# Altium schematic symbol library NNLightSwitcher_1.SCHLIB: 83 symbols (part 1 of 2)
Pins are listed as number, name and electrical type; pins without a type are passive.

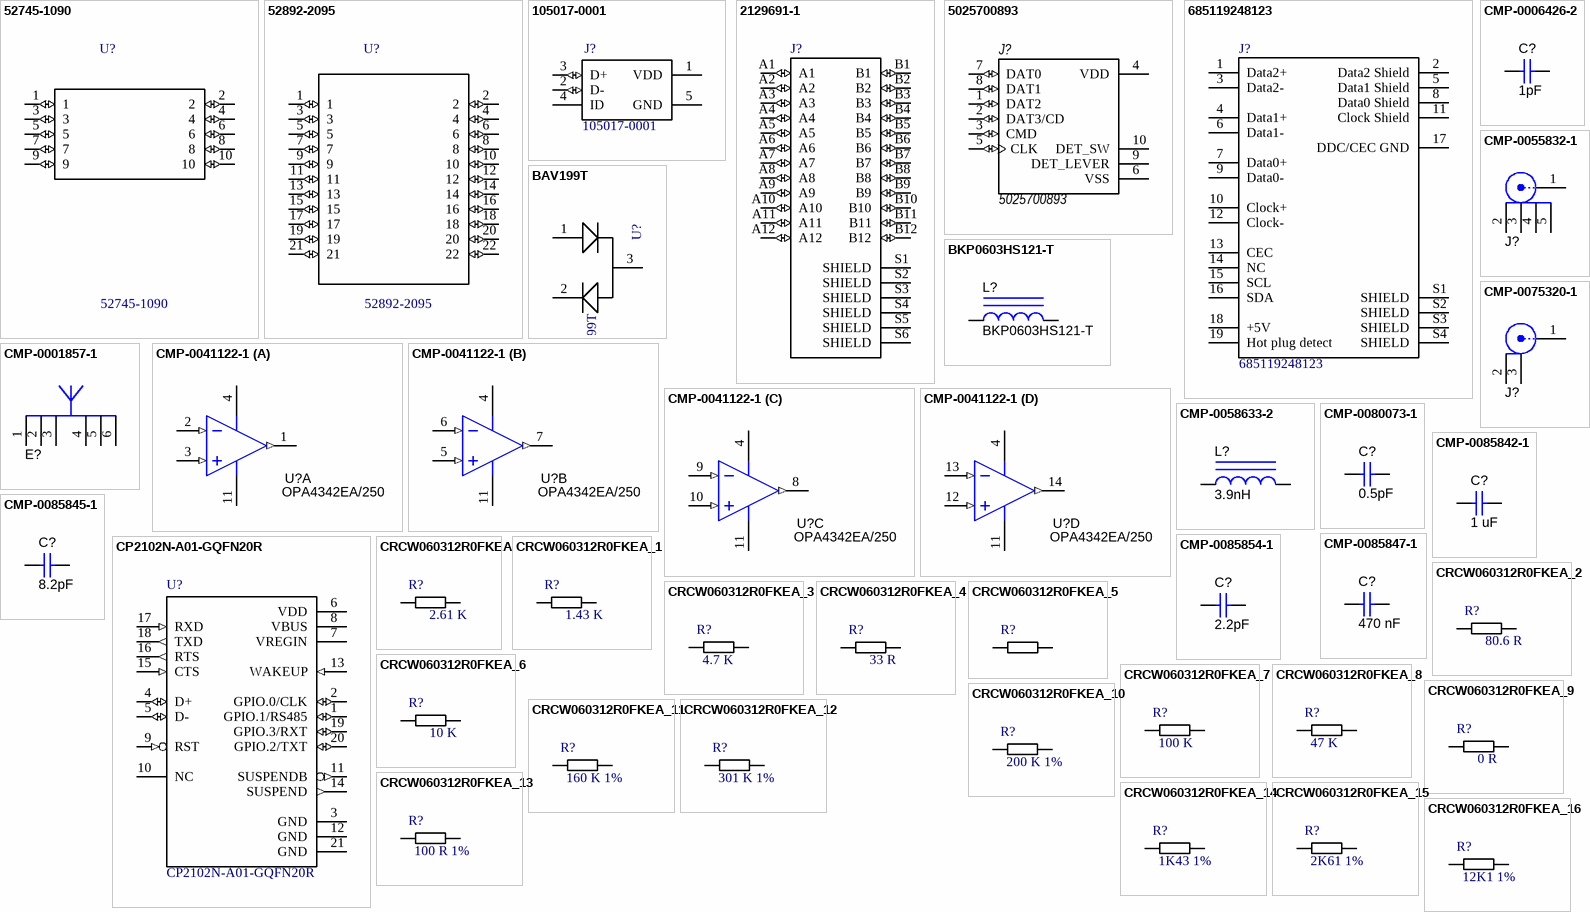
[diagram p0: symbols 52745-1090 to CRCW060312R0FKEA_16]

## 52745-1090
designator U?
.50mm FFC/FPC Connectors 10CKT RA SMT ZIF CON BOTTOM CONTACT; MP: 52892-2095; MF: Molex; Package: None; Price: None; SnapEDA_Link: https://www.snapeda.com/parts/52892-2095/Molex/view-part/?ref=snap; Availability: Unavailable; Value: *
footprint *52745-1090
pins: 1 (io), 2 (io), 3 (io), 4 (io), 5 (io), 6 (io), 7 (io), 8 (io), 9 (io), 10 (io)

## 52892-2095
designator U?
.50mm FFC/FPC Connectors 20CKT RA SMT ZIF CON BOTTOM CONTACT; MF: Molex; MP: 52892-2095; Package: None; Price: None; SnapEDA_Link: https://www.snapeda.com/parts/52892-2095/Molex/view-part/?ref=snap; Availability: Unavailable; Value: *
footprint *MOLEX_52892-2095
pins: 1 (io), 2 (io), 3 (io), 4 (io), 5 (io), 6 (io), 7 (io), 8 (io), 9 (io), 10 (io), 11 (io), 12 (io), 13 (io), 14 (io), 15 (io), 16 (io), 17 (io), 18 (io), 19 (io), 20 (io), 21 (io), 22 (io)

## 105017-0001
designator J?
Conn USB Type B M 5 POS 0.65mm Solder RA Thru-Hole 5 Terminal 1 Port Embossed T/R; MF: Molex; Package: None; MP: 105017-0001; Availability: Good; Price: 0.50 USD; Value: *
footprint MOLEX_105017-0001
pins: 1 VDD (power), 2 D- (io), 3 D+ (io), 4 ID, 5 GND (power)

## 2129691-1
designator J?  (value not drawn)
Conn USB 3.1 Type C RCP 24 POS Solder RA SMD/Thru-Hole 24 Terminal 1 Port Automotive T/R; Product_Type: Connector; Centerline_Pitch: .5 mm[.019 in]; Number_of_Positions: 24; MF: TE Connectivity; TE_purchase_URL: https://www.te.com/usa-en/product-2129691-1.html?te_bu=Cor&te_type=disp&te_campaign=seda_glo_cor-seda-global-disp-prtnr-fy19-seda-model-bom-cta_sma-317_1&elqCampaignId=32493; Package: None; MP: 2129691-1; Price: None; Availability: Unavailable; SnapEDA_Link: https://www.snapeda.com/parts/2129691-1/TE%20Connectivity%20AMP%20Connectors/view-part/?ref=snap; Value: *
footprint *TE_2129691-1_2129691-1(Primary)
pins: A1 (io), A2 (io), A3 (io), A4 (io), A5 (io), A6 (io), A7 (io), A8 (io), A9 (io), A10 (io), A11 (io), A12 (io), B1 (io), B2 (io), B3 (io), B4 (io), B5 (io), B6 (io), B7 (io), B8 (io), B9 (io), B10 (io), B11 (io), B12 (io), S1 SHIELD, S2 SHIELD, S3 SHIELD, S4 SHIELD, S5 SHIELD, S6 SHIELD

## 5025700893
designator J?
1.10mm Pitch microSD Memory Card Connector%2C Normal Mount Surface Mount%2C Push-Push Type; Производитель: Molex; Группа: Разъём; Value: 5025700893; Корпус: *
footprint MOLEX_5025700893
pins: 1 DAT2 (io), 2 DAT3/CD (io), 3 CMD (io), 4 VDD (power), 5 CLK (io), 6 VSS (power), 7 DAT0 (io), 8 DAT1 (io), 9 DET_LEVER, 10 DET_SW

## 685119248123
designator J?
Micro Hdmi Conn, Rcpt, 19pos, r/a, Smt; MF: Wurth Electronics; MP: 685119248123; Availability: Unavailable; Package: None; Price: None; SnapEDA_Link: https://www.snapeda.com/parts/685119248123/Wurth%20Electronics%20Inc./view-part/?ref=snap; Value: *
footprint *WURTH_685119248123_685119248123(Primary)
pins: 1 Data2+, 2 Data2 Shield, 3 Data2-, 4 Data1+, 5 Data1 Shield, 6 Data1-, 7 Data0+, 8 Data0 Shield, 9 Data0-, 10 Clock+, 11 Clock Shield, 12 Clock-, 13 CEC, 14 NC, 15 SCL, 16 SDA, 17 DDC/CEC GND, 18 +5V, 19 Hot plug detect, S1 SHIELD, S2 SHIELD, S3 SHIELD, S4 SHIELD

## BAV199T
designator U?
DIODE, SS, DUAL, 85V, 0.125A, SOT523; Diode Type: Standard Recovery; Forward Current If_AV_: 215mA; Repetitive Revers...; MF: Micro Commercial; Package: SOT-23 Micro Commercial; MP: BAV199T; Availability: Unavailable; Price: None; SnapEDA_Link: https://www.snapeda.com/parts/BAV199T/Micro%20Commercial/view-part/?ref=snap; Value: *
footprint *SOT95P240X110-3N
pins: 1 ANODE, 2 CATHODE, 3 ANODE/CATHODE

## BKP0603HS121-T
designator L?
Inductor, Multilayer, Ferrite bad; PartNumber: LQG15HS3N9S02D; Manufacturer: MuRata; Value: 3.9nH; Imax_A: 750mA; Irms: 0.75A @ 25C rise; DCR_ohm: 0.14; Value1: 0.14 ohm; Value2: 0.75A; Material: Air Core; Green_Lifecycle: Active; SizeAreaWB_mm2: 3; Green_REACh: Passed; SizeZ_mm: 0.55; SizeX_mm: 1; SizeY_mm: 0.5; AEC Qualified: N; AEC Category: Q200; CompType: Inductor; PackageReference: 0402 polarized; Ind_H: 3.9nH; Technology: Multilayer; MountType: SMT; ComponentLink1Description: Datasheet link; ComponentLink1URL: https://search.murata.co.jp/Ceramy/image/img/P02/JELF243B-0010.pdf; RoHS: Y; Supplier 1: Digi-Key; Supplier Part Number 1: 490-2617-1-ND; Supplier 2: Mouser; Supplier Part Number 2: 81-LQG15HS3N9S02D; Green_EU RoHS-2: Incomplete; Green_EU RoHS: Passed; SizeArea_mm2: 0.5; AEC Grade: N/A; ValueDisplayed: BKP0603HS121-T
footprint IND_LQG15H (MuRata)
footprint 0402 (0402 from SM-752 data)
footprint 0402M (0402 from SM-752 data)
footprint 0402L (0402 from SM-752 data)
footprint 0402S (Based on C0402S footprint from PADS legacy)
footprint *BEADC0603X33N
pins: 1, 2

## CMP-0001857-1
designator E?  (value not drawn)
WLAN ANTENNA 802.11, SMD; PartNumber: M830520; Manufacturer: Ethertronics; Alternate Manufacturer: ----; SizeAreaWB_mm2: 50; SizeArea_mm2: 24; SizeX_mm: 3; SizeY_mm: 8; SizeZ_mm: 1.33; CompType: Antenna; MountType: SMT; ComponentLink1Description: Datasheet URL; ComponentLink1URL: http://www.ethertronics.com/files/6014/0708/4228/Savvi_WLAN__8x3_M830510.pdf; RoHS: Y; PackageReference: 8x3mm; Publisher: Texas Instruments; LatestRevisionDate: 09/03/2017; Alternate PartNumber: ----
footprint Ethertronics_M830520 (SMD, 6-Leads, Body 8x3mm)
pins: 1 Feed, 2 GND (power), 3 GND (power), 4 Feed, 5, 6

## CMP-0006426-2
designator C?  ValueDisplayed: 1pF  (hidden comment: CMP-0006426-2)
CAP, CERM, 1 pF, 50 V, +/- 10%, C0G/NP0, 0402; PartNumber: GRM1555C1H1R0BA01D; Manufacturer: MuRata; Alternate PartNumber: ----; Polarized: N; CompType: Capacitor; Value: 1pF; U/M: EA; Value1: Unknown; VDC_V: 50V; TaMin_C: -55°C; TaMax_C: 125°C; Cap_Case: 0402; SizeAreaWB_mm2: 3; SizeZ_mm: 0.6; SizeX_mm: 1; SizeY_mm: 0.5; AEC Category: Q200; PackageReference: 0402; RoHS: Y; Cap_F: 1pF; Tolerance_%: 10%; Value2: 50V; MountType: SMT; Technology: Ceramic; TempCo: C0G/NP0; Published: 2008-06-19; Publisher: Texas Instruments; LatestRevisionDate: 2017-03-09; ComponentLink1Description: Datasheet link; ComponentLink1URL: http://psearch.murata.com/capacitor/product/GRM1555C1H1R0BA01%23.pdf; Alternate Manufacturer: ----; Supplier 1: Digi-Key; Supplier Part Number 1: 490-6206-1-ND; Supplier 2: Mouser; Supplier Part Number 2: 81-GRM1555C1H1R0BA1D; SizeArea_mm2: 0.5; AEC Qualified: ?
footprint 0402 (0402 from SM-752 data)
footprint 0402S (Based on C0402S footprint from PADS legacy)
footprint 0402L (0402 from SM-752 data)
footprint 0402M (0402 from SM-752 data)
pins: 1, 2

## CMP-0041122-1
designator U?  PartNumber: OPA4342EA/250  (hidden comment: CMP-0041122-1)
Low Cost, Low Power, Rail-to-Rail Operational Amplifier MicroAmplifier(TM) Series, 2.7 to 5.5 V, -55 to 125 degC, 14-pin SOP (PW14), Green (RoHS & no Sb/Br); Manufacturer: Texas Instruments; CMRR(Min)(dB): 76; GBW(Typ)(MHz): 1; IIB(Max)(pA): 10; Iq per channel(Max)(mA): 0.25; Number of Channels: 4; Offset Drift(Typ)(uV/C): 3; Packing: SMALL T&R; Rating: Catalog; Sub Family: Low Input Bias Current Amp (<=10pA), Low Power Amp (<=500uA), Low Supply Voltage Amplifier (<=2.7V), Precision Amplifier; Total Supply Voltage(Max)(+5V is 5, +/-5V is 10): 5.5; Total Supply Voltage(Min)(+5V is 5, +/-5V is 10): 2.7; Vio (25C)(Max)(mV): 6; DatasheetVersion: SBOS106A; PackageVersion: 4040064-3/G, 02/2011; PackageReference: PW0014A; PackageDescription: 14-Pin Plastic Small Outline, Body 5 x 4.4 mm, Pitch 0.65 mm; Eco-Plan: Green (RoHS & no Sb/Br); Slew Rate(Typ)(V/us): 1; Code_JEDEC: MO-153; ComponentLink1Description: Manufacturer URL; ComponentLink1URL: http://www.ti.com/; ComponentLink2Description: Datasheet; ComponentLink2URL: http://www.ti.com/lit/ds/symlink/opa4342.pdf; ComponentLink3Description: Package Specification; ComponentLink3URL: http://www.ti.com/litv/pdf/mpds360; Mounting Technology: Surface Mount
footprint PW0014A_N (TSOP, 14-Leads, Body 5x4.4mm, Pitch 0.65mm, IPC Medium Density)
footprint PW0014A_M (TSOP, 14-Leads, Body 5x4.4mm, Pitch 0.65mm, IPC Low Density)
footprint PW0014A_L (TSOP, 14-Leads, Body 5x4.4mm, Pitch 0.65mm, IPC High Density)
pins on every part: 4 V+ (power), 11 V- (power)
part A pins: 1 OUT A (out), 2 IN A- (in), 3 IN A+ (in)
part B pins: 5 IN B+ (in), 6 IN B- (in), 7 OUT B (out)
part C pins: 8 OUT C (out), 9 IN C- (in), 10 IN C+ (in)
part D pins: 12 IN D+ (in), 13 IN D- (in), 14 OUT D (out)

## CMP-0055832-1
designator J?  (value not drawn)
Connector, SMA, Vertical, Gold, SMT; PartNumber: SMA-10V21-TGG; Manufacturer: Hus-Tsan Group Co., Ltd.; Alternate Manufacturer: 傲创; Alternate PartNumber: SMA-050710; CT: TRUE; CNHeader: FALSE; PackageReference: SMD, 4-Leads, Body 7.1x7.1mm; CompType: SMA; RoHS: Y; MountType: SMT; ComponentLink1Description: Datasheet URL; ComponentLink1URL: https://sps06.itg.ti.com/sites/KMS/crossdivteams/altium/docs/ComponentDatasheets/SMA-10V21.pdf; Publisher: Texas Instruments; LatestRevisionDate: 26/05/2017
footprint Hustsan_SMA-10V21-TGG (SMD, 4-Leads, Body 7.1x7.1mm)
pins: 1, 2, 3, 4, 5

## CMP-0058633-2
designator L?  ValueDisplayed: 3.9nH  (hidden comment: CMP-0058633-2)
Inductor, Multilayer, Air Core, 3.9 nH, 0.75 A, 0.14 ohm, SMD; PartNumber: LQG15HS3N9S02D; Manufacturer: MuRata; Value: 3.9nH; Imax_A: 750mA; Irms: 0.75A @ 25C rise; DCR_ohm: 0.14; Value2: 0.75A; Green_Lifecycle: Active; SizeAreaWB_mm2: 3; Green_REACh: Passed; SizeZ_mm: 0.55; SizeX_mm: 1; SizeY_mm: 0.5; AEC Qualified: N; AEC Category: Q200; CompType: Inductor; PackageReference: 0402 polarized; Ind_H: 3.9nH; Value1: 0.14 ohm; Technology: Multilayer; MountType: SMT; Material: Air Core; ComponentLink1Description: Datasheet link; ComponentLink1URL: https://search.murata.co.jp/Ceramy/image/img/P02/JELF243B-0010.pdf; RoHS: Y; Supplier 1: Digi-Key; Supplier Part Number 1: 490-2617-1-ND; Supplier 2: Mouser; Supplier Part Number 2: 81-LQG15HS3N9S02D; Green_EU RoHS-2: Incomplete; Green_EU RoHS: Passed; SizeArea_mm2: 0.5; AEC Grade: N/A
footprint IND_LQG15H (MuRata)
footprint 0402 (0402 from SM-752 data)
footprint 0402M (0402 from SM-752 data)
footprint 0402L (0402 from SM-752 data)
footprint 0402S (Based on C0402S footprint from PADS legacy)
pins: 1, 2

## CMP-0075320-1
designator J?, comment U.FL-R-SMT-1(01)  (value not drawn)
Receptacle, Ultra Miniature Coaxial, Male Pin, 50 ohm, SMT; Manufacturer: Hirose Electric Co. Ltd.; Alternate Manufacturer: ----; CNHeader: False; Gender: Female; ContactFinish: Gold; PartNumber: U.FL-R-SMT-1(01); PackageReference: Ultra small CO-AX SMD; CompType: Receptacle; RoHS: Y; MountType: SMT; ComponentLink1Description: Datasheet URL; ComponentLink1URL: https://www.hirose.com/product/en/download_file/key_name/U.FL%2DR%2DSMT%2D1%2801%29/category/Drawing%20(2D)/doc_file_id/37625/?file_category_id=6&item_id=03310472201&is_series=; Publisher: Texas Instruments; LatestRevisionDate: 2017-07-12; Alternate PartNumber: ----; Supplier 1: Digi-Key; Supplier Part Number 1: H122041-ND; Supplier 2: Newark; Supplier Part Number 2: 18K7517; Supplier 3: Mouser; Supplier Part Number 3: 798-U.FL-R-SMT01; Color: Beige; PinCount: 3; Orientation: Vertical; CT: False
footprint CONN_UFL-R-SMT-1 (Hirose recommended land pattern http://www.hirose.co.jp/cataloge_hp/e32119372.pdf 2009.2)
pins: 1, 2, 3

## CMP-0080073-1
designator C?, comment ValueDisplayed: 0.5pF  (hidden comment: GJM1555C1HR50BB01J)
CAP, CERM, 0.5 pF, 50 V,+/- 20%, C0G/NP0, 0402; Manufacturer: MuRata; Polarized: N; CompType: Capacitor; Value: 0.5pF; U/M: EA; VDC_V: 50V; TaMin_C: -55°C; TaMax_C: 125°C; Cap_Case: 0402; Green_Lifecycle: Active; SizeAreaWB_mm2: 3; Green_REACh: Passed; SizeZ_mm: 0.6; SizeX_mm: 1; SizeY_mm: 0.5; AEC Category: Q200; PartNumber: GJM1555C1HR50BB01J; PackageReference: 0402; RoHS: Y; Cap_F: 0.5pF; Tolerance_%: 20%; Value2: 50V; MountType: SMT; Technology: Ceramic; TempCo: C0G/NP0; ComponentLink1Description: Datasheet link; ComponentLink1URL: https://search.murata.co.jp/Ceramy/image/img/A01X/G101/ENG/GJM1555C1HR50BB01-01.pdf; Supplier 1: Digi-Key; Supplier Part Number 1: 490-8105-1-ND; Supplier 2: Mouser; Supplier Part Number 2: 81-GJM1555C1HR50BB1J; Green_EU RoHS-2: Incomplete; Green_EU RoHS: Passed; SizeArea_mm2: 0.5; AEC Qualified: N; AEC Grade: N/A
footprint 0402 (0402 from SM-752 data)
footprint 0402M (0402 from SM-752 data)
footprint 0402L (0402 from SM-752 data)
footprint 0402S (Based on C0402S footprint from PADS legacy)
pins: 1, 2

## CMP-0085842-1
designator C?, comment ValueDisplayed: 1 uF  (hidden comment: 0402B103K500CT)
CAP, CERM, 0.01 µF, 50 V,+/- 10%, X7R, 0402; Manufacturer: Walsin; Alternate PartNumber: C1005X7R1C103K050BA; Polarized: N; CompType: Capacitor; Value: 0.01uF; U/M: EA; Cap_F: 10nF; VDC_V: 50V; TaMin_C: -55°C; TaMax_C: 125°C; Cap_Case: 0402; SizeArea_mm2: 0.5; SizeAreaWB_mm2: 3; SizeX_mm: 1; SizeZ_mm: 0.6; AEC Category: Q200; PartNumber: 0402B103K500CT; PackageReference: 0402; RoHS: Y; Tolerance_%: 10%; Value2: 50V; MountType: SMT; Technology: Ceramic; TempCo: X7R; ComponentLink1Description: Datasheet link; ComponentLink1URL: http://www.passivecomponent.com/indexsea/0402B103K500CT-IN.pdf; SizeY_mm: 0.5; AEC Qualified: N; AEC Grade: N/A
footprint 0402 (0402 from SM-752 data)
footprint 0402M (0402 from SM-752 data)
footprint 0402L (0402 from SM-752 data)
footprint 0402S (Based on C0402S footprint from PADS legacy)
pins: 1, 2

## CMP-0085845-1
designator C?, comment ValueDisplayed: 8.2pF  (hidden comment: 0402N8R2C500CT)
CAP, CERM, 8.2 pF, 50 V,+/- 3%, C0G/NP0, 0402; Manufacturer: Walsin; Alternate PartNumber: GRM1555C1H8R2CA01D; Alternate Manufacturer: MuRata; Polarized: N; CompType: Capacitor; Value: 8.2pF; U/M: EA; VDC_V: 50V; TaMin_C: -55°C; TaMax_C: 125°C; Cap_Case: 0402; SizeArea_mm2: 0.5; SizeAreaWB_mm2: 3; SizeX_mm: 1; SizeZ_mm: 0.6; AEC Category: Q200; PartNumber: 0402N8R2C500CT; PackageReference: 0402; RoHS: Y; Cap_F: 8.2pF; Tolerance_%: 3%; Value2: 50V; MountType: SMT; Technology: Ceramic; TempCo: C0G/NP0; SizeY_mm: 0.5; ComponentLink1Description: Datasheet link; ComponentLink1URL: http://www.passivecomponent.com/indexsea/0402N8R2C500CT-IN.pdf; AEC Qualified: N; AEC Grade: N/A
footprint 0402 (0402 from SM-752 data)
footprint 0402M (0402 from SM-752 data)
footprint 0402L (0402 from SM-752 data)
footprint 0402S (Based on C0402S footprint from PADS legacy)
pins: 1, 2

## CMP-0085847-1
designator C?, comment ValueDisplayed: 470 nF  (hidden comment: CC0201JRNPO8BN101)
CAP, CERM, 100 pF, 25 V,+/- 5%, C0G/NP0, 0201; Manufacturer: Yageo; Alternate PartNumber: C0603C0G1E101J030BA; Polarized: N; CompType: Capacitor; Value: 100pF; U/M: EA; VDC_V: 25V; TaMin_C: -55°C; TaMax_C: 125°C; Cap_Case: 0201; SizeArea_mm2: 0.18; SizeAreaWB_mm2: 2.08; SizeX_mm: 0.6; SizeY_mm: 0.3; SizeZ_mm: 0.26; AEC Category: Q200; PartNumber: CC0201JRNPO8BN101; PackageReference: 0201; RoHS: Y; Cap_F: 100pF; Tolerance_%: 5%; Value2: 25V; MountType: SMT; Technology: Ceramic; TempCo: C0G/NP0; ComponentLink1Description: Datasheet link; ComponentLink1URL: http://www.yageo.com/documents/recent/UPY-GP_NP0_16V-to-50V_16.pdf; AEC Qualified: N; AEC Grade: N/A
footprint 0201 (Data from Kemet datasheet CC101_COM dated 7/28/11)
footprint 0201M (Data from Kemet datasheet CC101_COM dated 7/28/11)
footprint 0201L (Data from Kemet datasheet CC101_COM dated 7/28/11)
footprint 0201_Silk (Data from Kemet datasheet CC101_COM dated 7/28/11)
pins: 1, 2

## CMP-0085854-1
designator C?, comment ValueDisplayed: 2.2pF  (hidden comment: GJM1555C1H2R2BB01D)
CAP, CERM, 2.2 pF, 50 V,+/- 4.5%, C0G/NP0, 0402; Manufacturer: MuRata; Alternate PartNumber: GRM1555C1H2R2BA01D; Polarized: N; CompType: Capacitor; Value: 2.2pF; U/M: EA; VDC_V: 50V; TaMin_C: -55°C; TaMax_C: 125°C; Cap_Case: 0402; SizeArea_mm2: 0.5; SizeAreaWB_mm2: 3; SizeX_mm: 1; SizeZ_mm: 0.6; AEC Category: Q200; PartNumber: GJM1555C1H2R2BB01D; PackageReference: 0402; RoHS: Y; Cap_F: 2.2pF; Tolerance_%: 4.5%; Value2: 50V; MountType: SMT; Technology: Ceramic; TempCo: C0G/NP0; SizeY_mm: 0.5; ComponentLink1Description: Datasheet link; ComponentLink1URL: https://psearch.en.murata.com/capacitor/product/GJM1555C1H2R2BB01%23.pdf; Alternate Manufacturer: MuRata; AEC Qualified: N; AEC Grade: N/A
footprint 0402 (0402 from SM-752 data)
footprint 0402M (0402 from SM-752 data)
footprint 0402L (0402 from SM-752 data)
footprint 0402S (Based on C0402S footprint from PADS legacy)
pins: 1, 2

## CP2102N-A01-GQFN20R
designator U?
Ic Bridge Usb To Uart 20qfn; MF: Silicon Labs; Package: QFN-20 Silicon Labs; Price: None; SnapEDA_Link: https://www.snapeda.com/parts/CP2102N-A01-GQFN20R/Silicon%20Labs/view-part/?ref=snap; MP: CP2102N-A01-GQFN20R; Availability: Unavailable; Value: *
footprint *SILABS_QFN20
pins: 1 GPIO.1/RS485 (io), 2 GPIO.0/CLK (io), 3 GND (power), 4 D+ (io), 5 D- (io), 6 VDD (power), 7 VREGIN (power), 8 VBUS (power), 9 RST (in), 10 NC, 11 SUSPENDB (out), 12 GND (power), 13 WAKEUP (in), 14 SUSPEND (out), 15 CTS (in), 16 RTS (out), 17 RXD (in), 18 TXD (out), 19 GPIO.3/RXT (io), 20 GPIO.2/TXT (io), 21 GND (power)

## CRCW060312R0FKEA
designator R?  value 2.61 K
0603 0.1 W Film Chip Resistor; MP: CRCW060312R0FKEA; MF: Vishay Dale; Package: 0603 Vishay; Price: None; Availability: Unavailable; SnapEDA_Link: https://www.snapeda.com/parts/CRCW060312R0FKEA/Vishay%20Dale/view-part/?ref=snap
footprint *0603
pins: 1, 2

## CRCW060312R0FKEA_1
designator R?  value 1.43 K
0603 0.1 W Film Chip Resistor; MP: CRCW060312R0FKEA; MF: Vishay Dale; Package: 0603 Vishay; Price: None; Availability: Unavailable; SnapEDA_Link: https://www.snapeda.com/parts/CRCW060312R0FKEA/Vishay%20Dale/view-part/?ref=snap
footprint *0603
pins: 1, 2

## CRCW060312R0FKEA_2
designator R?  value 80.6 R
0603 0.1 W Film Chip Resistor; MP: CRCW060312R0FKEA; MF: Vishay Dale; Package: 0603 Vishay; Price: None; Availability: Unavailable; SnapEDA_Link: https://www.snapeda.com/parts/CRCW060312R0FKEA/Vishay%20Dale/view-part/?ref=snap
footprint *0603
pins: 1, 2

## CRCW060312R0FKEA_3
designator R?  value 4.7 K
0603 0.1 W Film Chip Resistor; MP: CRCW060312R0FKEA; MF: Vishay Dale; Package: 0603 Vishay; Price: None; Availability: Unavailable; SnapEDA_Link: https://www.snapeda.com/parts/CRCW060312R0FKEA/Vishay%20Dale/view-part/?ref=snap
footprint *0603
pins: 1, 2

## CRCW060312R0FKEA_4
designator R?  value 33 R
0603 0.1 W Film Chip Resistor; MP: CRCW060312R0FKEA; MF: Vishay Dale; Package: 0603 Vishay; Price: None; Availability: Unavailable; SnapEDA_Link: https://www.snapeda.com/parts/CRCW060312R0FKEA/Vishay%20Dale/view-part/?ref=snap
footprint *0603
pins: 1, 2

## CRCW060312R0FKEA_5
designator R?
0603 0.1 W Film Chip Resistor; MP: CRCW060312R0FKEA; MF: Vishay Dale; Value: 12.1 K; Package: 0603 Vishay; Price: None; Availability: Unavailable; SnapEDA_Link: https://www.snapeda.com/parts/CRCW060312R0FKEA/Vishay%20Dale/view-part/?ref=snap
footprint *0603
pins: 1, 2

## CRCW060312R0FKEA_6
designator R?  value 10 K  (hidden comment: *)
/ CRCW Series 0603 0.1 W 12 Ohm Â±1 % Â±100 ppm/K SMT Thick Film Chip Resistor /; MP: CRCW060312R0FKEA; MF: Vishay Dale; Package: 0603 Vishay; Price: None; Availability: Unavailable; SnapEDA_Link: https://www.snapeda.com/parts/CRCW060312R0FKEA/Vishay%20Dale/view-part/?ref=snap
footprint *0603
pins: 1, 2

## CRCW060312R0FKEA_7
designator R?  value 100 K  (hidden comment: *)
/ CRCW Series 0603 0.1 W 12 Ohm Â±1 % Â±100 ppm/K SMT Thick Film Chip Resistor /; MP: CRCW060312R0FKEA; MF: Vishay Dale; Package: 0603 Vishay; Price: None; Availability: Unavailable; SnapEDA_Link: https://www.snapeda.com/parts/CRCW060312R0FKEA/Vishay%20Dale/view-part/?ref=snap
footprint *0603
pins: 1, 2

## CRCW060312R0FKEA_8
designator R?  value 47 K  (hidden comment: *)
/ CRCW Series 0603 0.1 W 12 Ohm Â±1 % Â±100 ppm/K SMT Thick Film Chip Resistor /; MP: CRCW060312R0FKEA; MF: Vishay Dale; Package: 0603 Vishay; Price: None; Availability: Unavailable; SnapEDA_Link: https://www.snapeda.com/parts/CRCW060312R0FKEA/Vishay%20Dale/view-part/?ref=snap
footprint *0603
pins: 1, 2

## CRCW060312R0FKEA_9
designator R?  value 0 R  (hidden comment: *)
/ CRCW Series 0603 0.1 W 12 Ohm Â±1 % Â±100 ppm/K SMT Thick Film Chip Resistor /; MP: CRCW060312R0FKEA; MF: Vishay Dale; Package: 0603 Vishay; Price: None; Availability: Unavailable; SnapEDA_Link: https://www.snapeda.com/parts/CRCW060312R0FKEA/Vishay%20Dale/view-part/?ref=snap
footprint *0603
pins: 1, 2

## CRCW060312R0FKEA_10
designator R?, comment value 200 K 1%  (hidden comment: Resistor)
/ CRCW Series 0603 0.1 W 12 Ohm Â±1 % Â±100 ppm/K SMT Thick Film Chip Resistor /; MP: CRCW060312R0FKEA; MF: Vishay Dale; Package: 0603 Vishay; Price: None; Availability: Unavailable; SnapEDA_Link: https://www.snapeda.com/parts/CRCW060312R0FKEA/Vishay%20Dale/view-part/?ref=snap
footprint *0603
pins: 1, 2

## CRCW060312R0FKEA_11
designator R?, comment value 160 K 1%  (hidden comment: Resistor)
/ CRCW Series 0603 0.1 W 12 Ohm Â±1 % Â±100 ppm/K SMT Thick Film Chip Resistor /; MP: CRCW060312R0FKEA; MF: Vishay Dale; Package: 0603 Vishay; Price: None; Availability: Unavailable; SnapEDA_Link: https://www.snapeda.com/parts/CRCW060312R0FKEA/Vishay%20Dale/view-part/?ref=snap
footprint *0603
pins: 1, 2

## CRCW060312R0FKEA_12
designator R?, comment value 301 K 1%  (hidden comment: Resistor)
/ CRCW Series 0603 0.1 W 12 Ohm Â±1 % Â±100 ppm/K SMT Thick Film Chip Resistor /; MP: CRCW060312R0FKEA; MF: Vishay Dale; Package: 0603 Vishay; Price: None; Availability: Unavailable; SnapEDA_Link: https://www.snapeda.com/parts/CRCW060312R0FKEA/Vishay%20Dale/view-part/?ref=snap
footprint *0603
pins: 1, 2

## CRCW060312R0FKEA_13
designator R?, comment value 100 R 1%  (hidden comment: Resistor)
/ CRCW Series 0603 0.1 W 12 Ohm Â±1 % Â±100 ppm/K SMT Thick Film Chip Resistor /; MP: CRCW060312R0FKEA; MF: Vishay Dale; Package: 0603 Vishay; Price: None; Availability: Unavailable; SnapEDA_Link: https://www.snapeda.com/parts/CRCW060312R0FKEA/Vishay%20Dale/view-part/?ref=snap
footprint *0603
pins: 1, 2

## CRCW060312R0FKEA_14
designator R?, comment value 1K43 1%  (hidden comment: Resistor)
/ CRCW Series 0603 0.1 W 12 Ohm Â±1 % Â±100 ppm/K SMT Thick Film Chip Resistor /; MP: CRCW060312R0FKEA; MF: Vishay Dale; Package: 0603 Vishay; Price: None; Availability: Unavailable; SnapEDA_Link: https://www.snapeda.com/parts/CRCW060312R0FKEA/Vishay%20Dale/view-part/?ref=snap
footprint *0603
pins: 1, 2

## CRCW060312R0FKEA_15
designator R?, comment value 2K61 1%  (hidden comment: Resistor)
/ CRCW Series 0603 0.1 W 12 Ohm Â±1 % Â±100 ppm/K SMT Thick Film Chip Resistor /; MP: CRCW060312R0FKEA; MF: Vishay Dale; Package: 0603 Vishay; Price: None; Availability: Unavailable; SnapEDA_Link: https://www.snapeda.com/parts/CRCW060312R0FKEA/Vishay%20Dale/view-part/?ref=snap
footprint *0603
pins: 1, 2

## CRCW060312R0FKEA_16
designator R?, comment value 12K1 1%  (hidden comment: Resistor)
/ CRCW Series 0603 0.1 W 12 Ohm Â±1 % Â±100 ppm/K SMT Thick Film Chip Resistor /; MP: CRCW060312R0FKEA; MF: Vishay Dale; Package: 0603 Vishay; Price: None; Availability: Unavailable; SnapEDA_Link: https://www.snapeda.com/parts/CRCW060312R0FKEA/Vishay%20Dale/view-part/?ref=snap
footprint *0603
pins: 1, 2

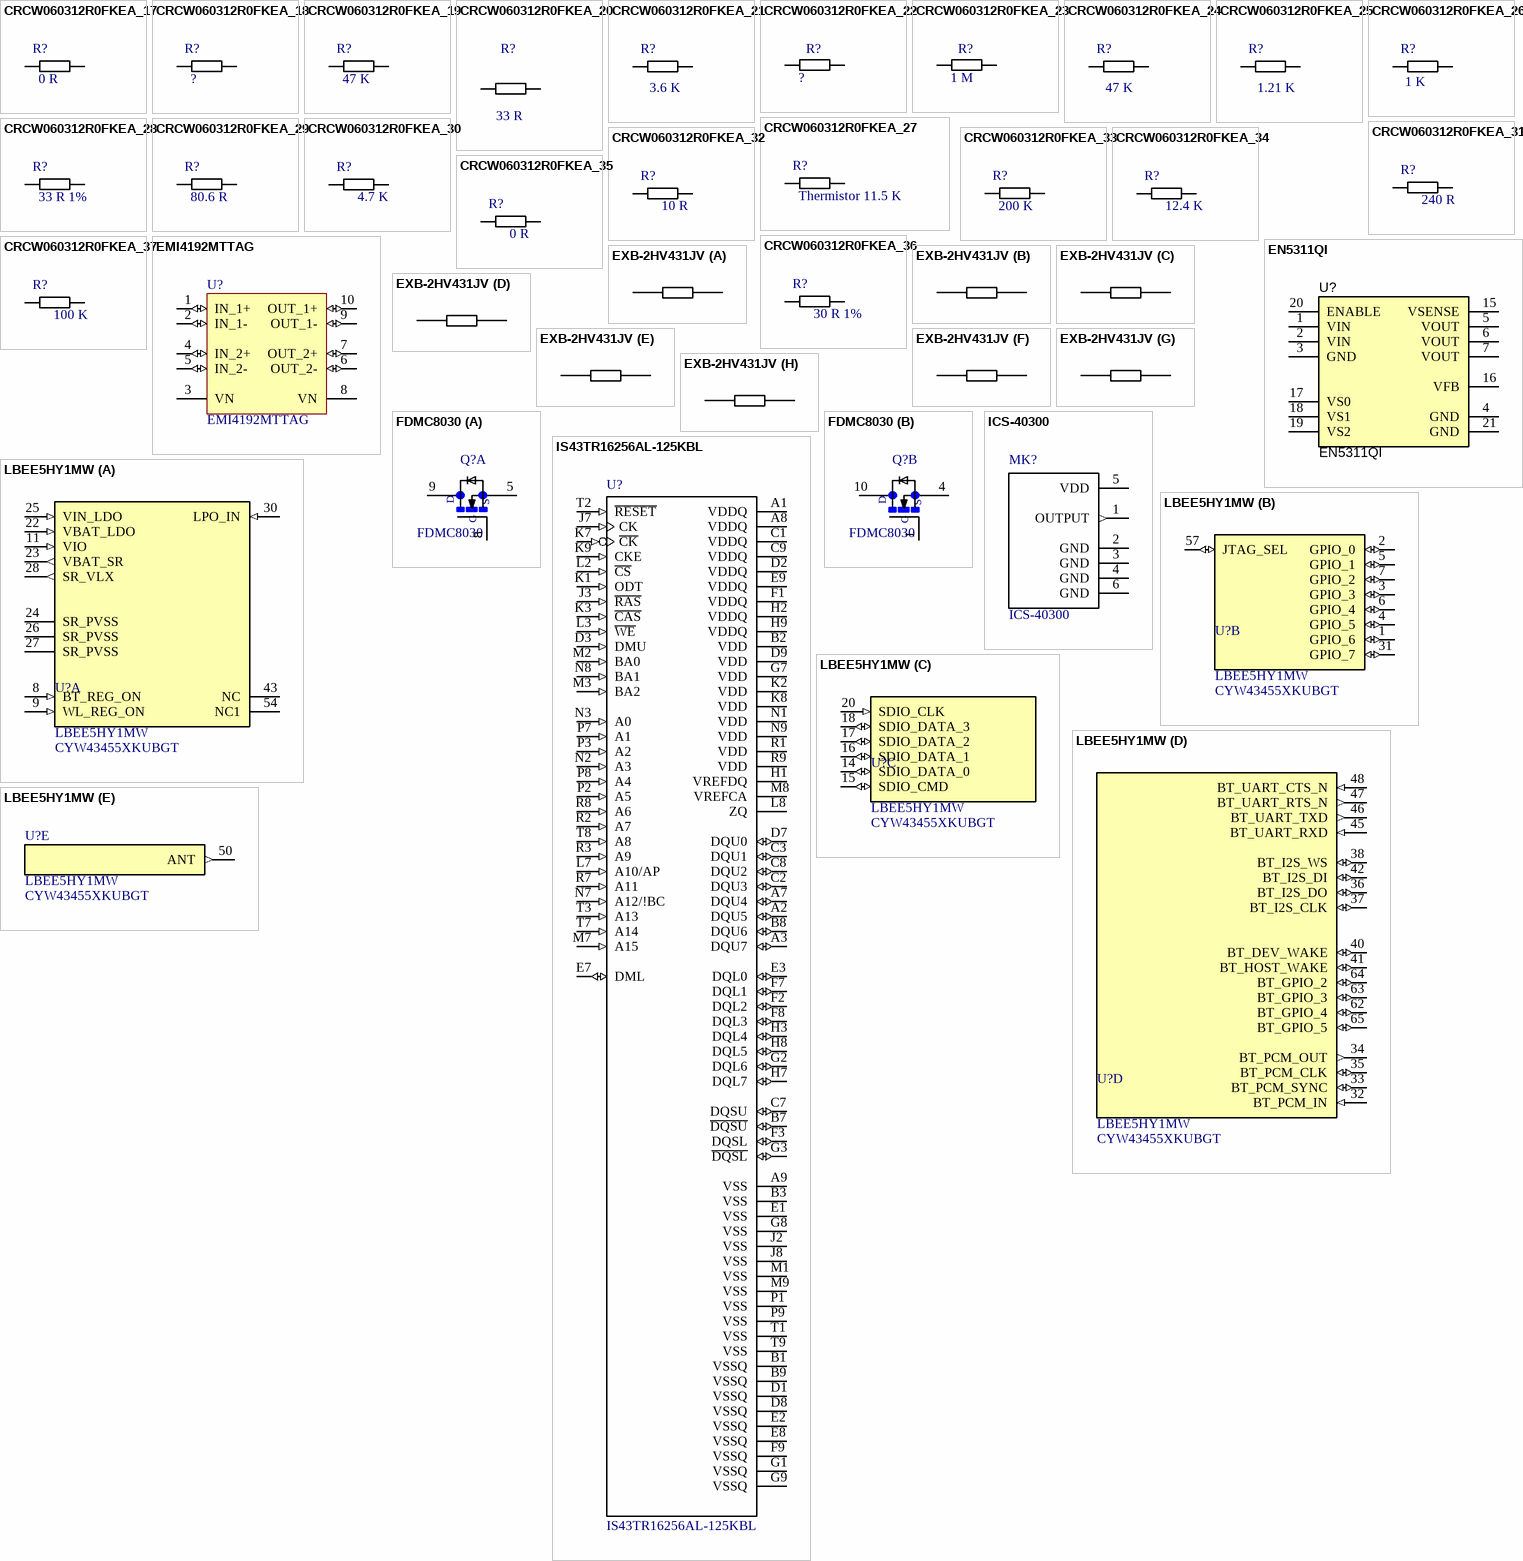
[diagram p1: symbols CRCW060312R0FKEA_17 to LBEE5HY1MW]

## CRCW060312R0FKEA_17
designator R?, comment value 0 R  (hidden comment: Resistor)
/ CRCW Series 0603 0.1 W 12 Ohm Â±1 % Â±100 ppm/K SMT Thick Film Chip Resistor /; MP: CRCW060312R0FKEA; MF: Vishay Dale; Package: 0603 Vishay; Price: None; Availability: Unavailable; SnapEDA_Link: https://www.snapeda.com/parts/CRCW060312R0FKEA/Vishay%20Dale/view-part/?ref=snap
footprint *0603
pins: 1, 2

## CRCW060312R0FKEA_18
designator R?
0603 0.1 W Film Chip Resistor; MP: CRCW060312R0FKEA; MF: Vishay Dale; Package: 0603 Vishay; Price: None; Availability: Unavailable; SnapEDA_Link: https://www.snapeda.com/parts/CRCW060312R0FKEA/Vishay%20Dale/view-part/?ref=snap; Value: ?
footprint *0603
pins: 1, 2

## CRCW060312R0FKEA_19
designator R?  value 47 K
0603 0.1 W Film Chip Resistor; MP: CRCW060312R0FKEA; MF: Vishay Dale; Package: 0603 Vishay; Price: None; Availability: Unavailable; SnapEDA_Link: https://www.snapeda.com/parts/CRCW060312R0FKEA/Vishay%20Dale/view-part/?ref=snap
footprint *0603
pins: 1, 2

## CRCW060312R0FKEA_20
designator R?  value 33 R  (hidden comment: *)
/ CRCW Series 0603 0.1 W 12 Ohm Â±1 % Â±100 ppm/K SMT Thick Film Chip Resistor /; MP: CRCW060312R0FKEA; MF: Vishay Dale; Package: 0603 Vishay; Price: None; Availability: Unavailable; SnapEDA_Link: https://www.snapeda.com/parts/CRCW060312R0FKEA/Vishay%20Dale/view-part/?ref=snap
footprint *0603
pins: 1, 2

## CRCW060312R0FKEA_21
designator R?, comment value 3.6 K  (hidden comment: Resistor)
/ CRCW Series 0603 0.1 W 12 Ohm Â±1 % Â±100 ppm/K SMT Thick Film Chip Resistor /; MP: CRCW060312R0FKEA; MF: Vishay Dale; Package: 0603 Vishay; Price: None; Availability: Unavailable; SnapEDA_Link: https://www.snapeda.com/parts/CRCW060312R0FKEA/Vishay%20Dale/view-part/?ref=snap
footprint *0603
pins: 1, 2

## CRCW060312R0FKEA_22
designator R?  (value not drawn)
/ CRCW Series 0603 0.1 W 12 Ohm Â±1 % Â±100 ppm/K SMT Thick Film Chip Resistor /; MP: CRCW060312R0FKEA; MF: Vishay Dale; Package: 0603 Vishay; Price: None; Availability: Unavailable; SnapEDA_Link: https://www.snapeda.com/parts/CRCW060312R0FKEA/Vishay%20Dale/view-part/?ref=snap; Value: ?
footprint *0603
pins: 1, 2

## CRCW060312R0FKEA_23
designator R?  value 1 M  (hidden comment: *)
/ CRCW Series 0603 0.1 W 12 Ohm Â±1 % Â±100 ppm/K SMT Thick Film Chip Resistor /; MP: CRCW060312R0FKEA; MF: Vishay Dale; Package: 0603 Vishay; Price: None; Availability: Unavailable; SnapEDA_Link: https://www.snapeda.com/parts/CRCW060312R0FKEA/Vishay%20Dale/view-part/?ref=snap
footprint *0603
pins: 1, 2

## CRCW060312R0FKEA_24
designator R?, comment value 47 K  (hidden comment: Resistor)
/ CRCW Series 0603 0.1 W 12 Ohm Â±1 % Â±100 ppm/K SMT Thick Film Chip Resistor /; MP: CRCW060312R0FKEA; MF: Vishay Dale; Package: 0603 Vishay; Price: None; Availability: Unavailable; SnapEDA_Link: https://www.snapeda.com/parts/CRCW060312R0FKEA/Vishay%20Dale/view-part/?ref=snap
footprint *0603
pins: 1, 2

## CRCW060312R0FKEA_25
designator R?, comment value 1.21 K  (hidden comment: Resistor)
/ CRCW Series 0603 0.1 W 12 Ohm Â±1 % Â±100 ppm/K SMT Thick Film Chip Resistor /; MP: CRCW060312R0FKEA; MF: Vishay Dale; Package: 0603 Vishay; Price: None; Availability: Unavailable; SnapEDA_Link: https://www.snapeda.com/parts/CRCW060312R0FKEA/Vishay%20Dale/view-part/?ref=snap
footprint *0603
pins: 1, 2

## CRCW060312R0FKEA_26
designator R?, comment value 1 K  (hidden comment: Resistor)
/ CRCW Series 0603 0.1 W 12 Ohm Â±1 % Â±100 ppm/K SMT Thick Film Chip Resistor /; MP: CRCW060312R0FKEA; MF: Vishay Dale; Package: 0603 Vishay; Price: None; Availability: Unavailable; SnapEDA_Link: https://www.snapeda.com/parts/CRCW060312R0FKEA/Vishay%20Dale/view-part/?ref=snap
footprint *0603
pins: 1, 2

## CRCW060312R0FKEA_27
designator R?, comment value Thermistor 11.5 K  (hidden comment: Resistor)
/ CRCW Series 0603 0.1 W 12 Ohm Â±1 % Â±100 ppm/K SMT Thick Film Chip Resistor /; MP: CRCW060312R0FKEA; MF: Vishay Dale; Package: 0603 Vishay; Price: None; Availability: Unavailable; SnapEDA_Link: https://www.snapeda.com/parts/CRCW060312R0FKEA/Vishay%20Dale/view-part/?ref=snap
footprint *0603
pins: 1, 2

## CRCW060312R0FKEA_28
designator R?, comment value 33 R 1%  (hidden comment: Resistor)
/ CRCW Series 0603 0.1 W 12 Ohm Â±1 % Â±100 ppm/K SMT Thick Film Chip Resistor /; MP: CRCW060312R0FKEA; MF: Vishay Dale; Package: 0603 Vishay; Price: None; Availability: Unavailable; SnapEDA_Link: https://www.snapeda.com/parts/CRCW060312R0FKEA/Vishay%20Dale/view-part/?ref=snap
footprint *0603
pins: 1, 2

## CRCW060312R0FKEA_29
designator R?  value 80.6 R  (hidden comment: *)
/ CRCW Series 0603 0.1 W 12 Ohm Â±1 % Â±100 ppm/K SMT Thick Film Chip Resistor /; MP: CRCW060312R0FKEA; MF: Vishay Dale; Package: 0603 Vishay; Price: None; Availability: Unavailable; SnapEDA_Link: https://www.snapeda.com/parts/CRCW060312R0FKEA/Vishay%20Dale/view-part/?ref=snap
footprint *0603
pins: 1, 2

## CRCW060312R0FKEA_30
designator R?  value 4.7 K  (hidden comment: *)
/ CRCW Series 0603 0.1 W 12 Ohm Â±1 % Â±100 ppm/K SMT Thick Film Chip Resistor /; MP: CRCW060312R0FKEA; MF: Vishay Dale; Package: 0603 Vishay; Price: None; Availability: Unavailable; SnapEDA_Link: https://www.snapeda.com/parts/CRCW060312R0FKEA/Vishay%20Dale/view-part/?ref=snap
footprint *0603
pins: 1, 2

## CRCW060312R0FKEA_31
designator R?  value 240 R  (hidden comment: *)
/ CRCW Series 0603 0.1 W 12 Ohm Â±1 % Â±100 ppm/K SMT Thick Film Chip Resistor /; MP: CRCW060312R0FKEA; MF: Vishay Dale; Package: 0603 Vishay; Price: None; Availability: Unavailable; SnapEDA_Link: https://www.snapeda.com/parts/CRCW060312R0FKEA/Vishay%20Dale/view-part/?ref=snap
footprint *0603
pins: 1, 2

## CRCW060312R0FKEA_32
designator R?  value 10 R
0603 0.1 W Film Chip Resistor; MP: CRCW060312R0FKEA; MF: Vishay Dale; Package: 0603 Vishay; Price: None; Availability: Unavailable; SnapEDA_Link: https://www.snapeda.com/parts/CRCW060312R0FKEA/Vishay%20Dale/view-part/?ref=snap
footprint *0603
pins: 1, 2

## CRCW060312R0FKEA_33
designator R?  value 200 K
0603 0.1 W Film Chip Resistor; MP: CRCW060312R0FKEA; MF: Vishay Dale; Package: 0603 Vishay; Price: None; Availability: Unavailable; SnapEDA_Link: https://www.snapeda.com/parts/CRCW060312R0FKEA/Vishay%20Dale/view-part/?ref=snap
footprint *0603
pins: 1, 2

## CRCW060312R0FKEA_34
designator R?  value 12.4 K
0603 0.1 W Film Chip Resistor; MP: CRCW060312R0FKEA; MF: Vishay Dale; Package: 0603 Vishay; Price: None; Availability: Unavailable; SnapEDA_Link: https://www.snapeda.com/parts/CRCW060312R0FKEA/Vishay%20Dale/view-part/?ref=snap
footprint *0603
pins: 1, 2

## CRCW060312R0FKEA_35
designator R?  value 0 R
0603 0.1 W Film Chip Resistor; MP: CRCW060312R0FKEA; MF: Vishay Dale; Package: 0603 Vishay; Price: None; Availability: Unavailable; SnapEDA_Link: https://www.snapeda.com/parts/CRCW060312R0FKEA/Vishay%20Dale/view-part/?ref=snap
footprint *0603
pins: 1, 2

## CRCW060312R0FKEA_36
designator R?  value 30 R 1%
0603 0.1 W Film Chip Resistor; MP: CRCW060312R0FKEA; MF: Vishay Dale; Package: 0603 Vishay; Price: None; Availability: Unavailable; SnapEDA_Link: https://www.snapeda.com/parts/CRCW060312R0FKEA/Vishay%20Dale/view-part/?ref=snap
footprint *0603
pins: 1, 2

## CRCW060312R0FKEA_37
designator R?  value 100 K
0603 0.1 W Film Chip Resistor; MP: CRCW060312R0FKEA; MF: Vishay Dale; Package: 0603 Vishay; Price: None; Availability: Unavailable; SnapEDA_Link: https://www.snapeda.com/parts/CRCW060312R0FKEA/Vishay%20Dale/view-part/?ref=snap
footprint *0603
pins: 1, 2

## EMI4192MTTAG
designator U?
Common Mode Filter with ESD Protection, -40 to 85 degC, 10-Pin WDFN, Pb-Free, Tape and Reel; Manufacturer: On Semiconductor; VRWM Max (V): 5; Number of Lines: 4; C Typ (pF): 0.8; ComponentLink1Description: Manufacturer URL; ComponentLink2Description: Datasheet; ComponentLink3Description: Package Specification; Mounting Technology: Surface Mount; ComponentLink3URL: http://www.onsemi.cn/pub_link/Collateral/511BM.PDF; DatasheetVersion: Rev. 2; ComponentLink1URL: http://www.onsemi.com/; ComponentLink2URL: http://www.onsemi.cn/pub_link/Collateral/EMI4192-D.PDF; Packing: Tape and Reel; PartNumber: EMI4192MTTAG; PackageReference: WDFN-10-511BM-01; PackageDescription: 10-Pin Small Outline No-Lead, Body 2.5 x 2 mm, Pitch 0.5 mm; PackageVersion: Rev. O, 06/2010; RoHS: Pb-Free
footprint ONSC-WDFN-10-511BM-01_V
pins: 1 IN_1+ (io) "CMF Channel 1+ to Connector (External)", 2 IN_1- (io) "CMF Channel 1- to Connector (External)", 3 VN (power) "Ground", 4 IN_2+ (io) "CMF Channel 1+ to Connector (External)", 5 IN_2- (io) "CMF Channel 1- to Connector (External)", 6 OUT_2- (io) "CMF Channel 2- to ASIC (Internal)", 7 OUT_2+ (io) "CMF Channel 2+ to ASIC (Internal)", 8 VN (power) "Ground", 9 OUT_1- (io) "CMF Channel 1- to ASIC (Internal)", 10 OUT_1+ (io) "CMF Channel 1+ to ASIC (Internal)"

## EN5311QI
designator U?
DC/DC; Manufacturer: TDK; Alternate Manufacturer: ----; CompType: Diplexer; SizeAreaWB_mm2: 4.68; SizeArea_mm2: 1.28; SizeX_mm: 0.8; SizeY_mm: 1.6; SizeZ_mm: 0.7; MountType: SMT; ComponentLink1Description: Datasheet URL; ComponentLink1URL: https://sps06.itg.ti.com/sites/KMS/crossdivteams/altium/docs/ComponentDatasheets/DPX165950DT-8148A1.pdf; RoHS: Y; PackageReference: 1.6x0.8mm; Publisher: Texas Instruments; LatestRevisionDate: 09/03/2017; Alternate PartNumber: ----; Supplier 1: Digi-Key; Supplier Part Number 1: 445-174759-1-ND; Supplier 2: Mouser; Supplier Part Number 2: 810-DPX16595DT8148A1; PartNumber: EN5311QI
footprint *QFN_20-PIN_ATMEL_20M1
pins: 1 VIN, 2 VIN, 3 GND (power), 4 GND (power), 5 VOUT, 6 VOUT, 7 VOUT, 15 VSENSE, 16 VFB (power), 17 VS0, 18 VS1, 19 VS2, 20 ENABLE, 21 GND (power)

## EXB-2HV431JV
designator RN?  (value not drawn)
/ Res Thick Film Array 430 Ohm 5% 1/4W Â±200ppm/Â°C ISOL Molded 16-Pin 1506_8 X 0402_ Convex SMD Punched Carrier T/R /; MF: Panasonic Electronic; Value: 33 R; MP: EXB-2HV431JV; Availability: Unavailable; Package: 1506 Panasonic; Price: None; SnapEDA_Link: https://www.snapeda.com/parts/EXB-2HV431JV/Panasonic%20Electronic%20Components/view-part/?ref=snap
footprint *RESCAXE50P380X160X55-16N
part A pins: 1, 16 2
part B pins: 2 1, 15 2
part C pins: 3 1, 14 2
part D pins: 4 1, 13 2
part E pins: 5 1, 12 2
part F pins: 6 1, 11 2
part G pins: 7 1, 10 2
part H pins: 8 1, 9 2

## FDMC8030
designator Q?
Dual Pt8 n 40/20v Syncfet In Mlp3x3 / Tape Reel; MF: ON Semiconductor; MP: FDMC8030; Package: PowerWDFN-8 ON Semiconductor; Price: None; SnapEDA_Link: https://www.snapeda.com/parts/FDMC8030/ON%20Semiconductor/view-part/?ref=snap; Availability: Unavailable; Value: *
footprint *TRANS_FDMC8030
part A pins: 5 S2, 8 G2, 9 D2
part B pins: 1 G1, 4 S1, 10 D1
part A text: D; S; G
part B text: D; S; G

## ICS-40300
designator MK?
High SPL Analog MEMS Microphone with Extended Low Feq Response; MF: TDK InvenSense; MP: ICS-40300; Availability: Unavailable; Package: LGA-6 TDK-InvenSense; Price: None; SnapEDA_Link: https://www.snapeda.com/parts/ICS-40300/TDK%20InvenSense/view-part/?ref=snap; Value: *
footprint *MIC_ICS-40300
pins: 1 OUTPUT (out), 2 GND (power), 3 GND (power), 4 GND (power), 5 VDD (power), 6 GND (power)

## IS43TR16256AL-125KBL
designator U?
4G, 1.35V, DDR3L, 256Mx16, 1600MT/s @ 11-11-11, 96 ball BGA _9mm x13mm_ RoHS; MF: ISSI, Integrated; MP: IS43TR16256AL-125KBL; Package: TFBGA-96 ISSI; Price: None; Availability: Unavailable; SnapEDA_Link: https://www.snapeda.com/parts/IS43TR16256AL-125KBL/ISSI%2C%20Integrated%20Silicon%20Solution%20Inc/view-part/?ref=snap; Value: *
footprint *BGA96C80P9X16_900X1300X120_IS43TR16256AL-125KBL(Primary)
pins: A1 VDDQ (power), A2 DQU5 (io), A3 DQU7 (io), A7 DQU4 (io), A8 VDDQ (power), A9 VSS (power), B1 VSSQ (power), B2 VDD (power), B3 VSS (power), B7 ~{DQSU} (io), B8 DQU6 (io), B9 VSSQ (power), C1 VDDQ (power), C2 DQU3 (io), C3 DQU1 (io), C7 DQSU (io), C8 DQU2 (io), C9 VDDQ (power), D1 VSSQ (power), D2 VDDQ (power), D3 DMU (in), D7 DQU0 (io), D8 VSSQ (power), D9 VDD (power), E1 VSS (power), E2 VSSQ (power), E3 DQL0 (io), E7 DML (io), E8 VSSQ (power), E9 VDDQ (power), F1 VDDQ (power), F2 DQL2 (io), F3 DQSL (io), F7 DQL1 (io), F8 DQL3 (io), F9 VSSQ (power), G1 VSSQ (power), G2 DQL6 (io), G3 ~{DQSL} (io), G7 VDD (power), G8 VSS (power), G9 VSSQ (power), H1 VREFDQ (power), H2 VDDQ (power), H3 DQL4 (io), H7 DQL7 (io), H8 DQL5 (io), H9 VDDQ (power), J2 VSS (power), J3 ~{RAS} (in), J7 CK (in), J8 VSS (power), K1 ODT (in), K2 VDD (power), K3 ~{CAS} (in), K7 ~{CK} (in), K8 VDD (power), K9 CKE (in), L2 ~{CS} (in), L3 ~{WE} (in), L7 A10/AP (in), L8 ZQ (power), M1 VSS (power), M2 BA0 (in), M3 BA2 (in), M7 A15 (in), M8 VREFCA (power), M9 VSS (power), N1 VDD (power), N2 A3 (in), N3 A0 (in), N7 A12/!BC (in), N8 BA1 (in), N9 VDD (power), P1 VSS (power), P2 A5 (in), P3 A2 (in), P7 A1 (in), P8 A4 (in), P9 VSS (power), R1 VDD (power), R2 A7 (in), R3 A9 (in), R7 A11 (in), R8 A6 (in), R9 VDD (power), T1 VSS (power), T2 ~{RESET} (in), T3 A13 (in), T7 A14 (in), T8 A8 (in), T9 VSS (power)

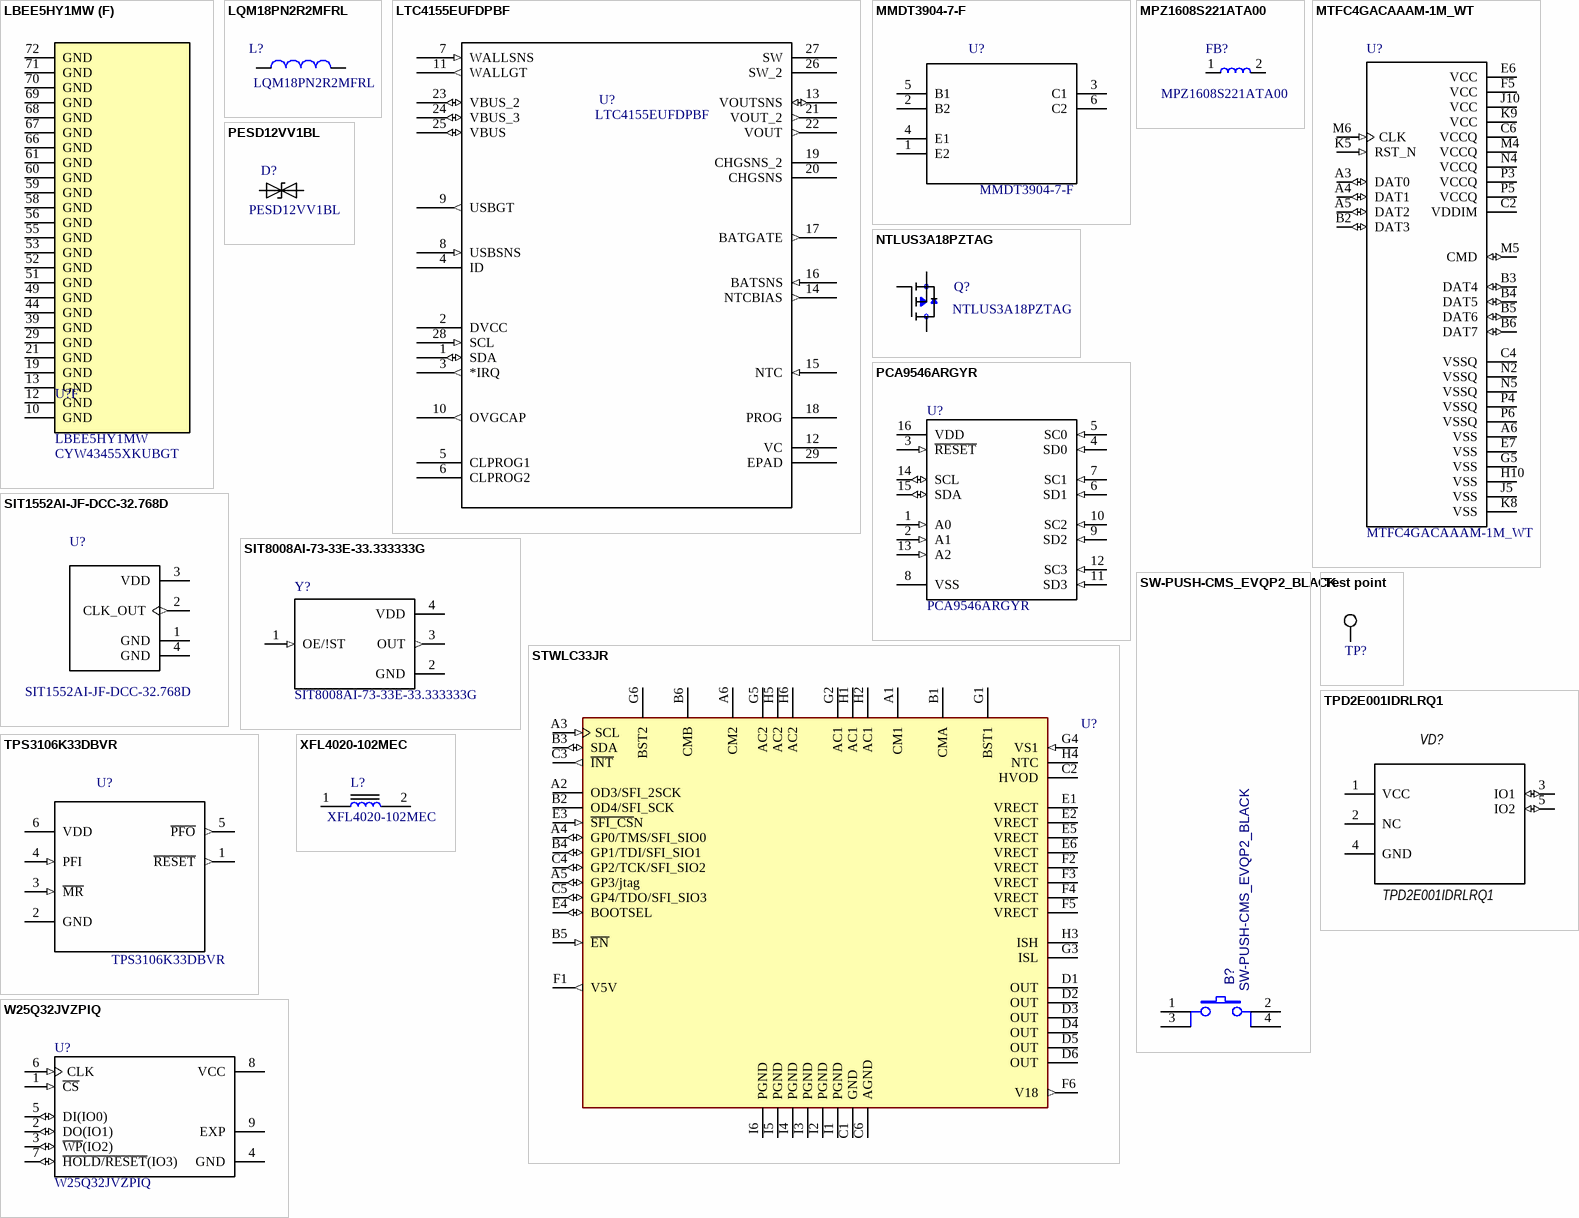
[diagram p2: symbols LBEE5HY1MW to XFL4020-102MEC]

## LBEE5HY1MW
designator U?  Supplier Part Number 1: CYW43455XKUBGT
Manufacturer 1: Cypress; Interface: SPI; Frequency: 5GHz; Data Rate: 433.3Mbps; Sensitivity: -95.5dBm; Number of GPIO: 15; Current - Receiving: 55mA; Current - Transmitting: 400mA; Supplier 1: Arrow; Manufacturer Part Number 1: CYW43455XKUBGT; Stock 1: 4725; Pricing 1: 1=11,04100, 10=10,17800, 25=9,54200, 100=8,48600, 250=8,08700, 500=7,59200, 1000=7,19100, 3000=6,47190 (USD); RoHS: No; Min Operating Temperature: -30°C; Max Operating Temperature: 85°C; Packaging: Tape and Reel
footprint 1MW LGA
part A pins: 8 BT_REG_ON (in), 9 WL_REG_ON (in), 11 VIO (in), 22 VBAT_LDO (in), 23 VBAT_SR (out), 24 SR_PVSS, 25 VIN_LDO (in), 26 SR_PVSS, 27 SR_PVSS, 28 SR_VLX (out), 30 LPO_IN (in), 43 NC, 54 NC1
part B pins: 1 GPIO_6 (io), 2 GPIO_0 (io), 3 GPIO_3 (io), 4 GPIO_5 (io), 5 GPIO_1 (io), 6 GPIO_4 (io), 7 GPIO_2 (io), 31 GPIO_7 (io), 57 JTAG_SEL (io)
part C pins: 14 SDIO_DATA_0 (io), 15 SDIO_CMD (io), 16 SDIO_DATA_1 (io), 17 SDIO_DATA_2 (io), 18 SDIO_DATA_3 (io), 20 SDIO_CLK (in)
part D pins: 32 BT_PCM_IN (in), 33 BT_PCM_SYNC (io), 34 BT_PCM_OUT (out), 35 BT_PCM_CLK (io), 36 BT_I2S_DO (io), 37 BT_I2S_CLK (io), 38 BT_I2S_WS (io), 40 BT_DEV_WAKE (io), 41 BT_HOST_WAKE (io), 42 BT_I2S_DI (io), 45 BT_UART_RXD (in), 46 BT_UART_TXD (out), 47 BT_UART_RTS_N (out), 48 BT_UART_CTS_N (in), 62 BT_GPIO_4 (io), 63 BT_GPIO_3 (io), 64 BT_GPIO_2 (io), 65 BT_GPIO_5 (io)
part E pins: 50 ANT (out)
part F pins: 10 GND, 12 GND, 13 GND, 19 GND, 21 GND, 29 GND, 39 GND, 44 GND, 49 GND, 51 GND, 52 GND, 53 GND, 55 GND, 56 GND, 58 GND, 59 GND, 60 GND, 61 GND, 66 GND, 67 GND, 68 GND, 69 GND, 70 GND, 71 GND, 72 GND

## LQM18PN2R2MFRL
designator L?
Inductor Power Chip Shielded Multi-Layer 2.2uH 20% 1MHz Ferrite 750mA 375mOhm DCR 0603 T/R; MF: Murata Electronics; Digi-Key_Part_Number: 490-10764-1-ND; Digi-Key_Purchase_URL: https://www.digikey.com/product-detail/en/murata-electronics-north-america/LQM18PN2R2MFRL/490-10764-1-ND/5251335?utm_source=snapeda&utm_medium=aggregator&utm_campaign=symbol; SnapEDA_Link: https://www.snapeda.com/parts/LQM18PN2R2MFRL/Murata%20Electronics%20North%20America/view-part/?ref=snap; MP: LQM18PN2R2MFRL; Package: 0603 Murata; Value: *
footprint *INDC1608X95N
pins: 1, 2

## LTC4155EUFDPBF
designator U?
LTC4155 - Dual Input Power Manager/ 3.5A Li-Ion Battery Charger with I2C Control and USB OTG; MP: LTC4155EUFD#PBF; MF: Linear Technology/Analog; Digi-Key_Part_Number: LTC4155EUFD#PBF-ND; Package: QFN-28 Linear Technology; Digi-Key_Purchase_URL: https://www.digikey.com/product-detail/en/linear-technology-analog-devices/LTC4155EUFD-PBF/LTC4155EUFD-PBF-ND/2752906?utm_source=snapeda&utm_medium=aggregator&utm_campaign=symbol; SnapEDA_Link: https://www.snapeda.com/parts/LTC4155EUFD%23PBF/Analog%20Devices/view-part/?ref=snap; Value: *
footprint *QFN-28_UFD
pins: 1 SDA (io), 2 DVCC (power), 3 *IRQ (out), 4 ID, 5 CLPROG1, 6 CLPROG2, 7 WALLSNS (in), 8 USBSNS (in), 9 USBGT (out), 10 OVGCAP (out), 11 WALLGT (out), 12 VC, 13 VOUTSNS (io), 14 NTCBIAS (out), 15 NTC (in), 16 BATSNS (in), 17 BATGATE (out), 18 PROG, 19 CHGSNS_2, 20 CHGSNS, 21 VOUT_2 (out), 22 VOUT (out), 23 VBUS_2 (io), 24 VBUS_3 (io), 25 VBUS (io), 26 SW_2, 27 SW, 28 SCL (in), 29 EPAD

## MMDT3904-7-F
designator U?
TRANSISTOR, ARRAY, DUAL NPN, 40V, 200mA, SOT-363-6, FULL REEL; MF: Multicomp; MP: MMDT3904-7-F; Package: SOT-363 Multicomp; Price: None; SnapEDA_Link: https://www.snapeda.com/parts/MMDT3904-7-F/Multicomp/view-part/?ref=snap; Availability: Unavailable; Value: *
footprint *SOT65P210X110-6N
pins: 1 E2, 2 B2, 3 C1, 4 E1, 5 B1, 6 C2

## MPZ1608S221ATA00
designator FB?
Ind Chip Bead Multi-Layer 220Ohm 25% 100MHz Ferrite 2.2A 0603 Punched Paper T/R; MF: TDK; Package: 0603 TDK; MP: MPZ1608S221ATA00; Digi-Key_Part_Number: 445-1565-1-ND; SnapEDA_Link: https://www.snapeda.com/parts/MPZ1608S221ATA00/TDK-Lambda%20Americas%20Inc/view-part/?ref=snap; Digi-Key_Purchase_URL: https://www.digikey.com/product-detail/en/tdk-corporation/MPZ1608S221ATA00/445-1565-1-ND/571895?utm_source=snapeda&utm_medium=aggregator&utm_campaign=symbol; Value: *
footprint *INDC1608X80
pins: 1, 2

## MTFC4GACAAAM-1M_WT
designator U?
J54A eMMC 32G ECCN: 3A991 / HTS: 8542.32.0070; MP: MTFC4GACAAAM-1M WT; MF: Micron Technology; Package: VFBGA-153 Micron; SnapEDA_Link: https://www.snapeda.com/parts/MTFC4GACAAAM-1M%20WT/Micron%20Technology%20Inc./view-part/?ref=snap; Availability: Unavailable; Price: None; Value: *
footprint *BGA153N50P14X14_1150X1300X100_MTFC4GACAAAM-1M_WT(Primary)
pins: A3 DAT0 (io), A4 DAT1 (io), A5 DAT2 (io), A6 VSS (power), B2 DAT3 (io), B3 DAT4 (io), B4 DAT5 (io), B5 DAT6 (io), B6 DAT7 (io), C2 VDDIM (power), C4 VSSQ (power), C6 VCCQ (power), E6 VCC (power), E7 VSS (power), F5 VCC (power), G5 VSS (power), H10 VSS (power), J5 VSS (power), J10 VCC (power), K5 RST_N (in), K8 VSS (power), K9 VCC (power), M4 VCCQ (power), M5 CMD (io), M6 CLK (in), N2 VSSQ (power), N4 VCCQ (power), N5 VSSQ (power), P3 VCCQ (power), P4 VSSQ (power), P5 VCCQ (power), P6 VSSQ (power)

## NTLUS3A18PZTAG
designator Q?
Power MOSFET -20V -8.2A 18 mOhm Single P-Channel UDFN6 with ESD Protection; MF: ON Semiconductor; MP: NTLUS3A18PZTAG; Package: UDFN-6 ON Semiconductor; Price: None; SnapEDA_Link: https://www.snapeda.com/parts/NTLUS3A18PZTAG/ON%20Semiconductor/view-part/?ref=snap; Availability: Unavailable; Value: *
footprint *TRANS_NTLUS3A18PZTAG
pins: 1 D, 2 D, 3 G, 4 S, 5 D, 6 D, 7 D, 8 S

## PCA9546ARGYR
designator U?
PCA9546 Series 4-Channel I2C-Bus Switch w/ Interrupt Logic and Rst; MP: PCA9546APW,118; MF: NXP USA; Digi-Key_Purchase_URL: https://www.digikey.com/product-detail/en/nxp-usa-inc/PCA9546APW,118/568-2023-1-ND/812991?utm_source=snapeda&utm_medium=aggregator&utm_campaign=symbol; Package: TSSOP-16 NXP Semiconductors; Digi-Key_Part_Number: 568-2023-1-ND; SnapEDA_Link: https://www.snapeda.com/parts/PCA9546APW%2C118/NXP%20USA%20Inc./view-part/?ref=snap; Value: *
footprint *QFN50P400X350X100-17N(205X255)
pins: 1 A0 (in), 2 A1 (in), 3 ~{RESET} (in), 4 SD0 (in), 5 SC0 (in), 6 SD1 (in), 7 SC1 (in), 8 VSS, 9 SD2 (in), 10 SC2 (in), 11 SD3 (in), 12 SC3 (in), 13 A2 (in), 14 SCL (io), 15 SDA (io), 16 VDD (power)

## PESD12VV1BL
designator D?
ESD Suppressor TVS 30KV; MP: PESD12VS1UL; MF: Nexperia USA; Availability: Unavailable; Package: None; Price: None; SnapEDA_Link: https://www.snapeda.com/parts/PESD12VS1UL/Nexperia%20USA%20Inc./view-part/?ref=snap; Value: *
footprint *SOD882(T)
pins: 1 K, 2 A

## SIT1552AI-JF-DCC-32.768D
designator U?
Ultra Small, Ultra-Low Power 32.768 kHz TCXO; MF: SiTIME; MP: SIT1552AI-JF-DCC-32.768D; SnapEDA_Link: https://www.snapeda.com/parts/SIT1552AI-JF-DCC-32.768D/SiTIME/view-part/?ref=snap; Digi-Key_Purchase_URL: https://www.digikey.com/product-detail/en/sitime/SIT1552AI-JF-DCC-32.768D/1473-1242-1-ND/5035517?utm_source=snapeda&utm_medium=aggregator&utm_campaign=symbol; Digi-Key_Part_Number: 1473-1242-1-ND; Package: UFBGA-4 SiTime; Value: *
footprint *BGA4C100X41P2X2_154X84X60N
pins: 1 GND (power), 2 CLK_OUT (out), 3 VDD (power), 4 GND (power)

## SIT8008AI-73-33E-33.333333G
designator Y?
Mems Osc, 33.333333MHZ, 2X1.6MM, Lvcmos; MF: SiTIME; MP: SIT8008AI-73-33E-33.333333G; Package: SMD-4 SiTime; SnapEDA_Link: https://www.snapeda.com/parts/SIT8008AI-73-33E-33.333333G/SiTIME/view-part/?ref=snap; Availability: Unavailable; Price: None; Value: *
footprint *OSC_SIT8008AI-73-33E-33.333333G
pins: 1 OE/!ST (in), 2 GND (power), 3 OUT (out), 4 VDD (power)

## STWLC33JR
designator U?  (value not drawn)
pins: A1 CM1, A2 OD3/SFI_2SCK, A3 SCL (in), A4 GP0/TMS/SFI_SIO0 (io), A5 GP3/jtag (io), A6 CM2, B1 CMA, B2 OD4/SFI_SCK, B3 SDA (io), B4 GP1/TDI/SFI_SIO1 (io), B5 ~{EN} (in), B6 CMB, C1 GND (power), C2 HVOD, C3 ~{INT} (out), C4 GP2/TCK/SFI_SIO2 (io), C5 GP4/TDO/SFI_SIO3 (io), C6 AGND (power), D1 OUT, D2 OUT, D3 OUT, D4 OUT, D5 OUT, D6 OUT, E1 VRECT, E2 VRECT, E3 ~{SFI_CS}N (in), E4 BOOTSEL (io), E5 VRECT, E6 VRECT, F1 V5V (out), F2 VRECT, F3 VRECT, F4 VRECT, F5 VRECT, F6 V18 (out), G1 BST1, G2 AC1, G3 ISL, G4 VS1 (in), G5 AC2, G6 BST2, H1 AC1, H2 AC1, H3 ISH, H4 NTC, H5 AC2, H6 AC2, I1 PGND (power), I2 PGND (power), I3 PGND (power), I4 PGND (power), I5 PGND (power), I6 PGND (power)

## SW-PUSH-CMS_EVQP2_BLACK
designator B?
EVQP2 - 4.7mm x 3.5 mm SMD Light Touch Switch; Manuf_2: Panasonic; Manuf_Part_2: EVQP2F02K; Manuf_1: Jiubaba; Manuf_Part_1: C-TS-02H-2.5-K-V-T/R; Ordered by: Subcon; Fitted: YES; ECCN_US/EU: n/a
footprint TACT_4SM_3R5X5R5 (Footprint not found)
pins: 1, 2, 3, 4

## Test point
designator TP?, comment 5015  (value not drawn)
Test Point, Miniature, SMT; Manufacturer: Keystone; Alternate Manufacturer: ----; CNHeader: FALSE; Green_Lifecycle: Active; Green_REACh: Passed; CT: TRUE; PartNumber: 5015; PackageReference: Testpoint_Keystone_Miniature; CompType: Test Point; RoHS: Y; MountType: SMT; ComponentLink1Description: Datasheet URL; ComponentLink1URL: http://www.keyelco.com/userAssets/store/files/5015.PDF; Publisher: Texas Instruments; LatestRevisionDate: 26/05/2017; Alternate PartNumber: ----; Supplier 1: Digi-Key; Supplier Part Number 1: 36-5015TR-ND; Supplier 2: Mouser; Supplier Part Number 2: 534-5015; Green_EU RoHS-2: Incomplete; Green_EU RoHS: Passed
footprint Testpoint_Keystone_Miniature (Miniature SMT test point)
pins: 1

## TPD2E001IDRLRQ1
designator VD?
Automotive Catalog Low-Capacitance 2-Channel %2B/-15 kV ESD-Protection Array for High-Speed Data Inter 5-SOT -40 to 85; Производитель: Texas Instruments; Корпус: SOT-553; Группа: Диодная сборка; Value: TPD2E001IDRLRQ1; Аналоги: *
footprint SOT50P160X60-5N
pins: 1 VCC (power), 2 NC, 3 IO1 (io), 4 GND, 5 IO2 (io)

## TPS3106K33DBVR
designator U?
Ultra Low-Supply Current/Supply-Voltage Supervisory Circuits 6-SOT-23 -40 to 85; MF: Texas Instruments; MP: TPS3106K33DBVR; Package: SOT-23-6 Texas Instruments; Price: None; Availability: Unavailable; SnapEDA_Link: https://www.snapeda.com/parts/TPS3106K33DBVR/Texas%20Instruments/view-part/?ref=snap; Value: *
footprint *SOT95P280X145-6N
pins: 1 ~{RESET} (out), 2 GND, 3 ~{MR} (in), 4 PFI (in), 5 ~{PFO} (out), 6 VDD (power)

## W25Q32JVZPIQ
designator U?
Serial Flash Memory With Dual, Quad Spi; MF: Winbond; MP: W25Q32JVZPIQ; Package: WSON-8 Winbond; SnapEDA_Link: https://www.snapeda.com/parts/W25Q32JVZPIQ/Winbond%20Electronics/view-part/?ref=snap; Availability: Unavailable; Price: None; Value: *
footprint *SON127P600X500X80-9N
pins: 1 ~{CS} (in), 2 DO(IO1) (io), 3 ~{WP}(IO2) (io), 4 GND (power), 5 DI(IO0) (io), 6 CLK (in), 7 ~{HOLD/RESET}(IO3) (io), 8 VCC (power), 9 EXP

## XFL4020-102MEC
designator L?
Power inductor, shielded, 20% tol, SMT, RoHS, halogen free; MF: Coilcraft; MP: XFL4020-102MEC; Availability: Unavailable; Package: None; Price: None; SnapEDA_Link: https://www.snapeda.com/parts/XFL4020-102MEC/Coilcraft/view-part/?ref=snap; Value: *
footprint *INDM4040X210
pins: 1, 2

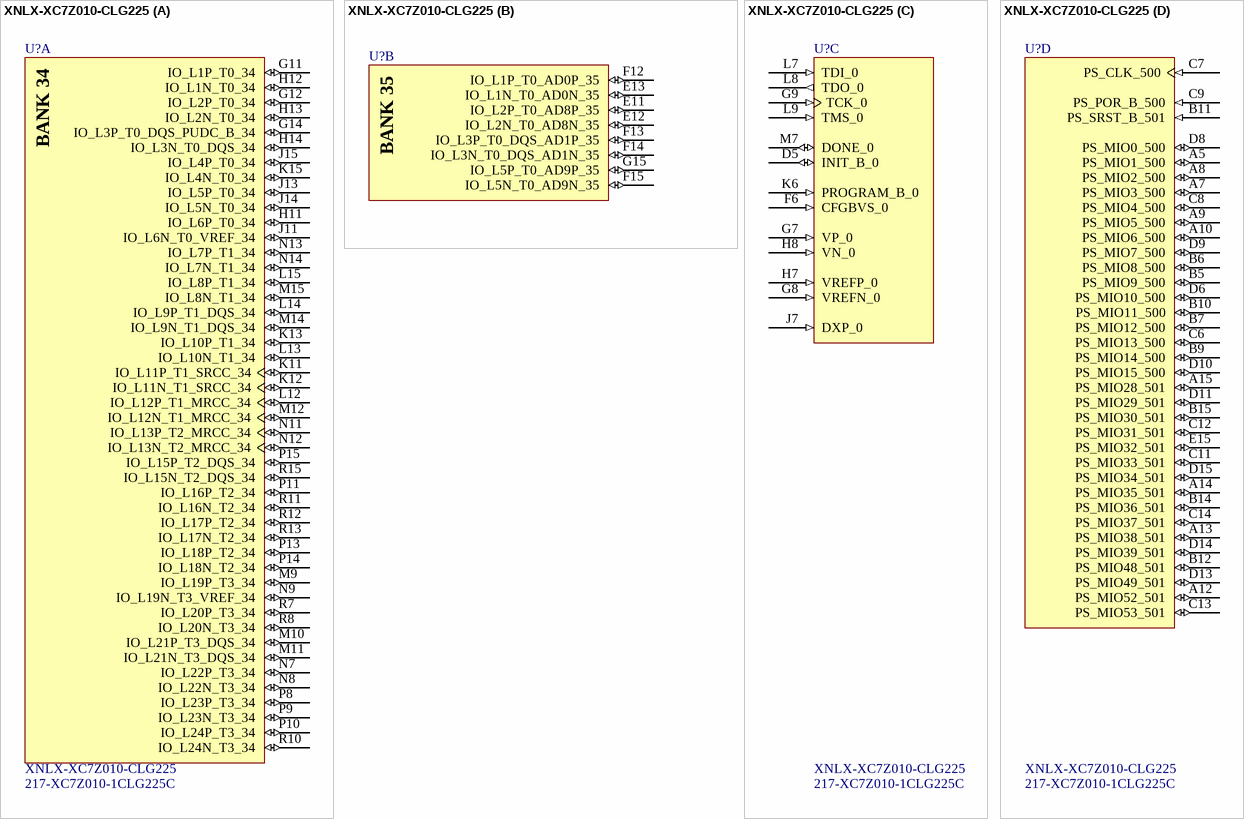
[diagram p3: symbol XNLX-XC7Z010-CLG225]

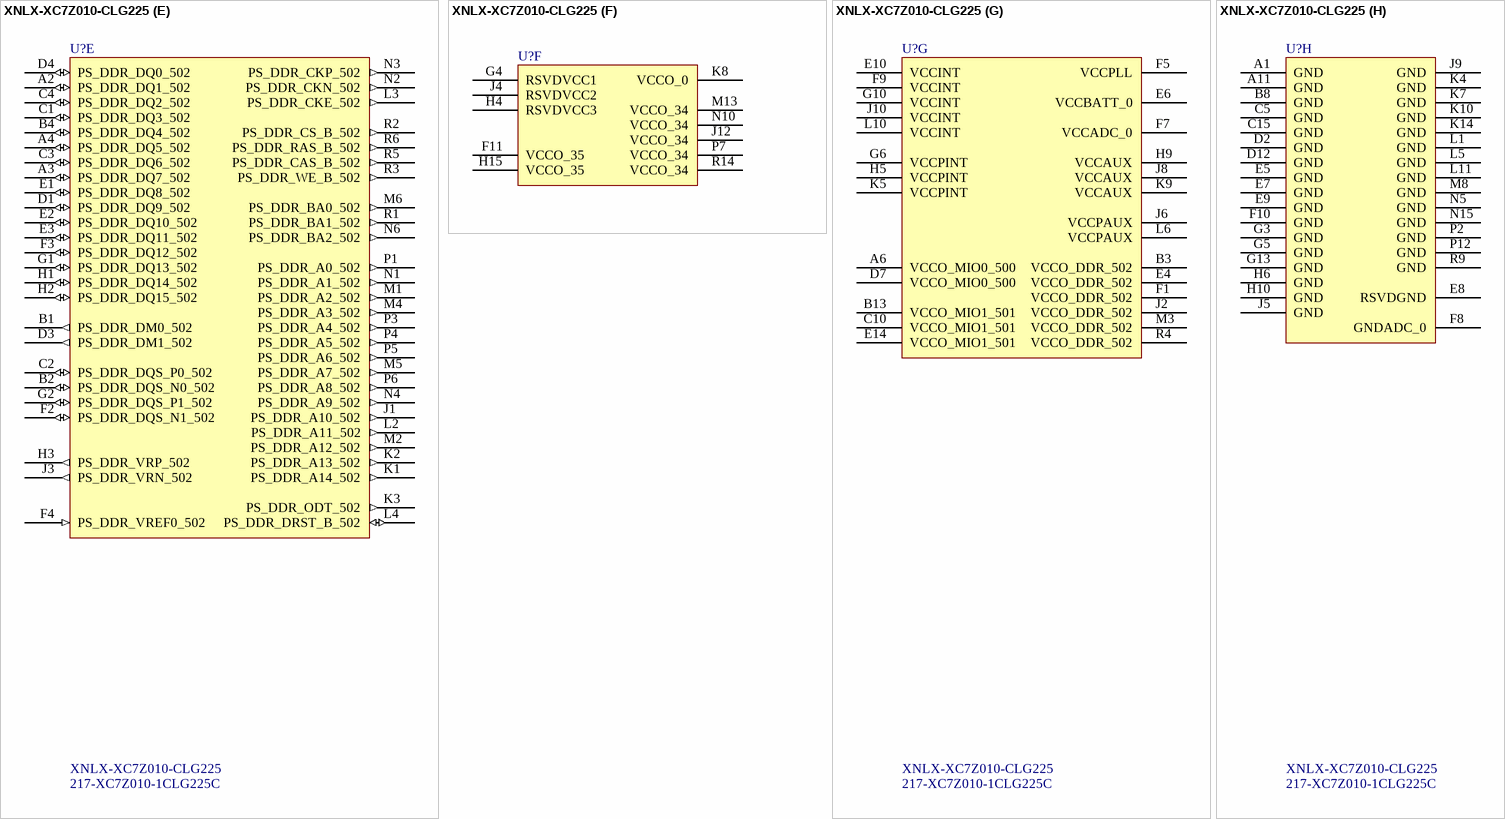
[diagram p4: symbol XNLX-XC7Z010-CLG225]